# EAGLE library part SSM2167_MODULE (library SSM2167_moduleA)
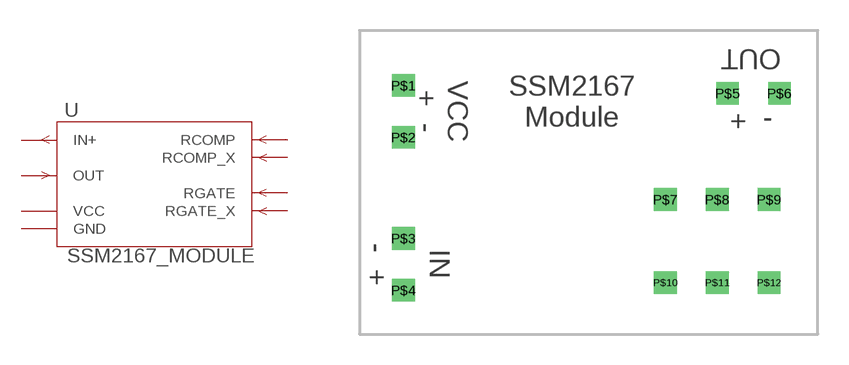
[diagram p0: symbol with the pads of SSM2167_MODULE_F; footprint SSM2167_MODULE_F]

Designator prefix -

## SSM2167_MODULE  [SSM2167_MODULE_F]
P$1  VCC  pwr
P$2  GND  pwr
P$3  IN+  in
P$4  GND  pwr
P$5  OUT  out
P$6  GND  pwr
P$7  RCOMP  in
P$8  RCOMP  in
P$9  RCOMP_X  in
P$10  RGATE  in
P$11  RGATE  in
P$12  RGATE_X  in

## Footprint SSM2167_MODULE_F (pad centres in mm)
drill 0.6 square: P$1 2.159,12.192; P$2 2.159,9.652; P$3 2.159,4.699; P$4 2.159,2.159; P$5 18.034,11.811; P$6 20.574,11.811; P$7 14.986,6.604; P$8 17.526,6.604; P$9 20.066,6.604; P$10 14.986,2.54; P$11 17.526,2.54; P$12 20.066,2.54